# EAGLE library part MIC4604_MIC4604YM (library MOTOR_DRIVER)
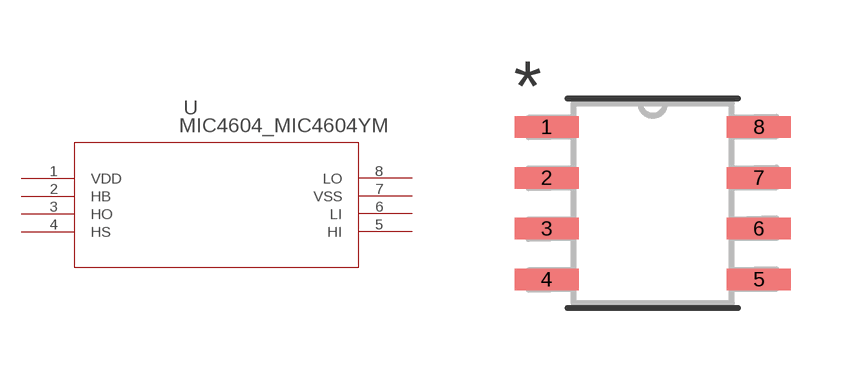
[diagram p0: symbol with the pads of MIC4604_SOIC-8_M; footprint MIC4604_SOIC-8_M]

Designator prefix U

## MIC4604_MIC4604YM (MANUFACTURER_PART_NUMBER: mic4604ym; VENDOR: Microchip)  [MIC4604_SOIC-8_M]
1  VDD  pwr
2  HB  pas
3  HO  out
4  HS  pas
5  HI  in
6  LI  in
7  VSS  pwr
8  LO  out

## Footprint MIC4604_SOIC-8_M (pad centres in mm)
smd 1.6 x 0.533: 1 -2.654,1.905; 2 -2.654,0.635; 3 -2.654,-0.635; 4 -2.654,-1.905; 5 2.654,-1.905; 6 2.654,-0.635; 7 2.654,0.635; 8 2.654,1.905